# Altium footprint library COMPONENTS.PcbLib: 23 footprints (part 1 of 2)
Each footprint in its own frame and in the unit in brackets; x right, y up, seen from the top. Pads: shape width x height; smd on the part's side, far side on the other; paste and mask are expansions set on the pad; w line width, h text height; cw(c..) or ccw(c..) is an arc to the next point about the centre after c.
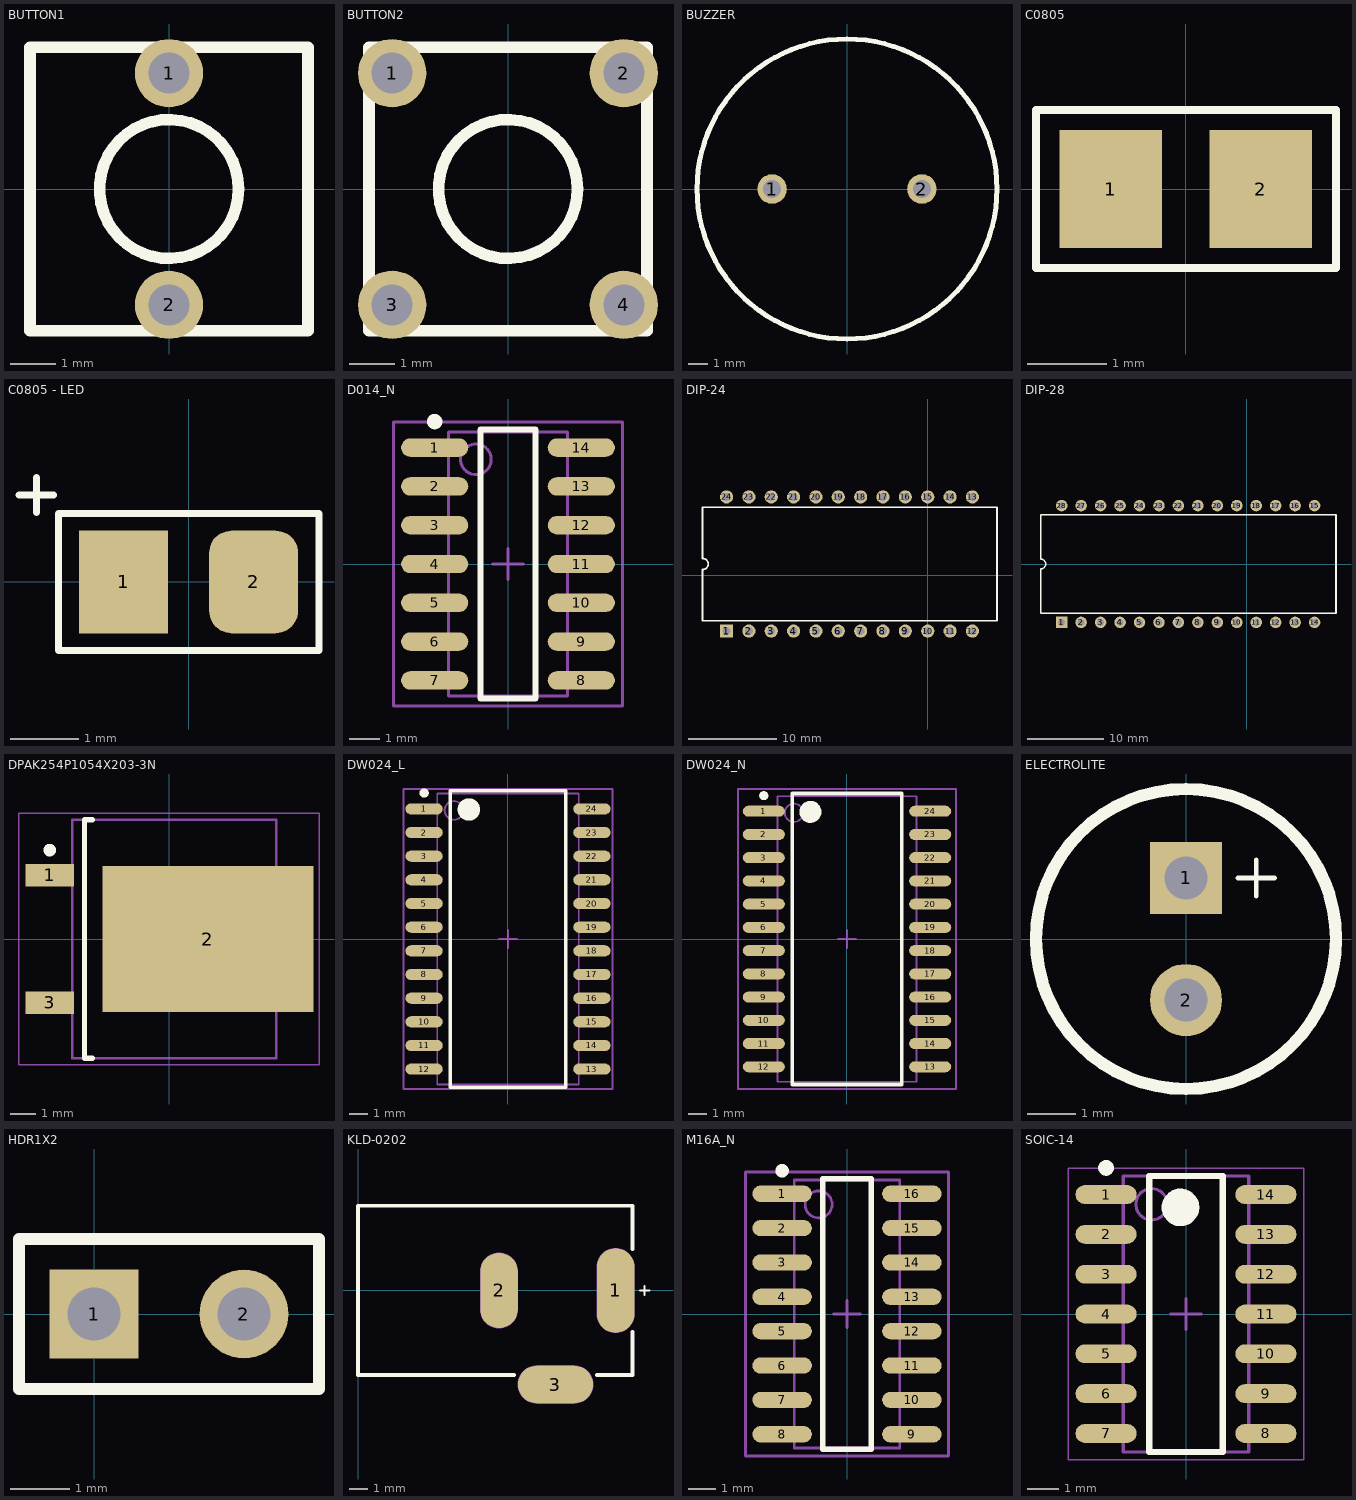
[diagram p0: the footprints below, top view; thin cyan lines are the x and y axes]

## BUTTON1 [mm]
pads (2):
  round 1.5 hole 0.9: 1(0,2.54) 2(0,-2.54)
Top Overlay:
  circle w0.254: c0,0 r1.524
  lines w0.254: -3.048,-3.111 3.048,-3.111 ; -3.048,-3.048 -3.048,3.048 ; -3.048,3.111 3.048,3.111 3.048,-3.048

## BUTTON2 [mm]
pads (4):
  round 1.5 hole 0.9: 1(-2.54,2.54) 2(2.54,2.54) 3(-2.54,-2.54) 4(2.54,-2.54)
Top Overlay:
  circle w0.254: c0,0 r1.524
  lines w0.254: -3.048,-3.111 3.048,-3.111 ; -3.048,-3.048 -3.048,3.048 ; -3.048,3.111 3.048,3.111 3.048,-3.048

## BUZZER [mm]
pads (2):
  round 1.5 hole 0.9: 1(-3.81,0) 2(3.81,0)
Top Overlay:
  circle w0.254: c0,0 r7.627

## C0805 [mm] "Chip Capacitor; Body 2.0 x 1.2 mm (LxW typ)"
height 1.1
pads (2):
  rect 1.3x1.5 smd: 1(-0.95,0) 2(0.95,0)
Top Overlay:
  lines w0.1: -1.9,-1 -1.9,0.9 -1.9,1 1.905,1 1.905,-1 -1.9,-1

## C0805 - LED [mm] "Chip Capacitor; Body 2.0 x 1.2 mm (LxW typ)"
height 1.1
pads (2):
  rect 1.3x1.5 smd: 1(-0.95,0)
  rrect50% 1.3x1.5 smd: 2(0.95,0)
Top Overlay:
  lines w0.1: -2.476,1.27 -1.968,1.27 ; -2.222,1.016 -2.222,1.524 ; -1.9,-1 1.905,-1 1.905,1 -1.9,1 -1.9,0.9 -1.9,-1

## D014_N [mm] "14-Pin Small Outline Integrated Circuit 1.27 mm Pitch, IPC Medium Density"
height 1.75
pads (14):
  oval 2.2x0.6 smd: 1(-2.4,3.81) 2(-2.4,2.54) 3(-2.4,1.27) 4(-2.4,0) 5(-2.4,-1.27) 6(-2.4,-2.54) 7(-2.4,-3.81) 8(2.4,-3.81) 9(2.4,-2.54) 10(2.4,-1.27) 11(2.4,0) 12(2.4,1.27) 13(2.4,2.54) 14(2.4,3.81)
Top Overlay:
  circle w0.25: c-2.4,4.66 r0.125
  lines w0.2: -0.9,-4.4 -0.9,4.4 0.9,4.4 0.9,-4.4 -0.9,-4.4
Mechanical 13:
  circle w0.1: c-1.05,3.425 r0.5
  lines w0.1: -1.95,-4.325 -1.95,4.325 1.95,4.325 1.95,-4.325 -1.95,-4.325
Mechanical 15:
  lines w0.1: -0.5,0 0.5,0 ; 0,-0.5 0,0.5 ; -3.75,-4.65 -3.75,4.65 3.75,4.65 3.75,-4.65 -3.75,-4.65
3D body: height 1.75, standoff 0, extent -1.95,-4.325 1.95,4.325

## DIP-24 [mm] "DIP; 40 Leads; Row Spacing 15.24 mm; Pitch 2.54 mm"
height 5.72
pads (24):
  rect 1.5x1.5 hole 0.9: 1(-22.86,-6.35)
  round 1.5 hole 0.9: 2(-20.32,-6.35) 3(-17.78,-6.35) 4(-15.24,-6.35) 5(-12.7,-6.35) 6(-10.16,-6.35) 7(-7.62,-6.35) 8(-5.08,-6.35) 9(-2.54,-6.35) 10(0,-6.35) 11(2.54,-6.35) 12(5.08,-6.35) 13(5.08,8.89) 14(2.54,8.89) 15(0,8.89) 16(-2.54,8.89) 17(-5.08,8.89) 18(-7.62,8.89) 19(-10.16,8.89) 20(-12.7,8.89) 21(-15.24,8.89) 22(-17.78,8.89) 23(-20.32,8.89) 24(-22.86,8.89)
Top Overlay:
  lines w0.2: -25.58,-5.18 7.874,-5.18 7.874,7.72 -25.58,7.72 -25.58,1.905 cw(c-25.58,1.27) -25.58,0.635 -25.58,-5.18

## DIP-28 [mm] "DIP; 40 Leads; Row Spacing 15.24 mm; Pitch 2.54 mm"
height 5.72
pads (28):
  rect 1.5x1.5 hole 0.9: 1(-24.13,-7.62)
  round 1.5 hole 0.9: 2(-21.59,-7.62) 3(-19.05,-7.62) 4(-16.51,-7.62) 5(-13.97,-7.62) 6(-11.43,-7.62) 7(-8.89,-7.62) 8(-6.35,-7.62) 9(-3.81,-7.62) 10(-1.27,-7.62) 11(1.27,-7.62) 12(3.81,-7.62) 13(6.35,-7.62) 14(8.89,-7.62) 15(8.89,7.62) 16(6.35,7.62) 17(3.81,7.62) 18(1.27,7.62) 19(-1.27,7.62) 20(-3.81,7.62) 21(-6.35,7.62) 22(-8.89,7.62) 23(-11.43,7.62) 24(-13.97,7.62) 25(-16.51,7.62) 26(-19.05,7.62) 27(-21.59,7.62) 28(-24.13,7.62)
Top Overlay:
  lines w0.2: -26.85,-6.45 11.684,-6.45 11.684,6.45 -26.85,6.45 -26.85,0.635 cw(c-26.85,0) -26.85,-0.635 -26.85,-6.45

## DPAK254P1054X203-3N [mm] "D-PAK, 3-Pads, Body 7,17x8,12mm (max), IPC Medium Density"
height 2.03
pads (3):
  rect 1.95x0.9 smd: 1(-4.75,2.54) 3(-4.75,-2.54)
  rect 8.4x5.8 smd: 2(1.55,0)
Top Overlay:
  circle w0.25: c-4.75,3.54 r0.125
  lines w0.2: -3.05,-4.75 -3.375,-4.75 -3.375,4.75 -3.05,4.75
Mechanical 13:
  lines w0.1: -3.85,-4.75 4.28,-4.75 4.28,4.75 -3.85,4.75 -3.85,-4.75
Mechanical 15:
  lines w0.05: -5.975,-5 5.975,-5 5.975,5 -5.975,5 -5.975,-5
  lines w0.1: -0.5,0 0.5,0 ; 0,-0.5 0,0.5
3D body: height 2.03, standoff 0.03, extent -3.85,-4.75 4.28,4.75

## DW024_L [mm] "24-Pin Plastic Small Outline Integrated Circuit 1.27 mm Pitch, IPC High Density"
height 2.65
pads (24):
  oval 2x0.6 smd: 1(-4.5,6.985) 2(-4.5,5.715) 3(-4.5,4.445) 4(-4.5,3.175) 5(-4.5,1.905) 6(-4.5,0.635) 7(-4.5,-0.635) 8(-4.5,-1.905) 9(-4.5,-3.175) 10(-4.5,-4.445) 11(-4.5,-5.715) 12(-4.5,-6.985) 13(4.5,-6.985) 14(4.5,-5.715) 15(4.5,-4.445) 16(4.5,-3.175) 17(4.5,-1.905) 18(4.5,-0.635) 19(4.5,0.635) 20(4.5,1.905) 21(4.5,3.175) 22(4.5,4.445) 23(4.5,5.715) 24(4.5,6.985)
Top Overlay:
  circle w0.6: c-2.1,6.95 r0.3
  circle w0.25: c-4.5,7.835 r0.125
  lines w0.2: -3.1,-7.95 3.1,-7.95 3.1,7.95 -3.1,7.95 -3.1,-7.95
Mechanical 13:
  circle w0.1: c-2.9,6.9 r0.5
  lines w0.1: -3.8,-7.8 3.8,-7.8 3.8,7.8 -3.8,7.8 -3.8,-7.8
Mechanical 15:
  lines w0.1: -0.5,0 0.5,0 ; 0,-0.5 0,0.5 ; -5.6,-8.05 5.6,-8.05 5.6,8.05 -5.6,8.05 -5.6,-8.05
3D body: height 2.65, standoff 0, extent -3.8,-7.8 3.8,7.8

## DW024_N [mm] "24-Pin Plastic Small Outline Integrated Circuit 1.27 mm Pitch, IPC Medium Density"
height 2.65
pads (24):
  oval 2.3x0.6 smd: 1(-4.55,6.985) 2(-4.55,5.715) 3(-4.55,4.445) 4(-4.55,3.175) 5(-4.55,1.905) 6(-4.55,0.635) 7(-4.55,-0.635) 8(-4.55,-1.905) 9(-4.55,-3.175) 10(-4.55,-4.445) 11(-4.55,-5.715) 12(-4.55,-6.985) 13(4.55,-6.985) 14(4.55,-5.715) 15(4.55,-4.445) 16(4.55,-3.175) 17(4.55,-1.905) 18(4.55,-0.635) 19(4.55,0.635) 20(4.55,1.905) 21(4.55,3.175) 22(4.55,4.445) 23(4.55,5.715) 24(4.55,6.985)
Top Overlay:
  circle w0.6: c-2,6.95 r0.3
  circle w0.25: c-4.55,7.835 r0.125
  lines w0.2: -3,-7.95 3,-7.95 3,7.95 -3,7.95 -3,-7.95
Mechanical 13:
  circle w0.1: c-2.9,6.9 r0.5
  lines w0.1: -3.8,-7.8 3.8,-7.8 3.8,7.8 -3.8,7.8 -3.8,-7.8
Mechanical 15:
  lines w0.1: -0.5,0 0.5,0 ; 0,-0.5 0,0.5 ; -5.95,-8.2 5.95,-8.2 5.95,8.2 -5.95,8.2 -5.95,-8.2
3D body: height 2.65, standoff 0, extent -3.8,-7.8 3.8,7.8

## ELECTROLITE [mm]
pads (2):
  rect 1.5x1.5 hole 0.9: 1(0,1.27)
  round 1.5 hole 0.9: 2(0,-1.27)
Top Overlay:
  circle w0.254: c0,0 r3.122
  lines w0.1: 1.079,1.27 1.841,1.27 ; 1.46,0.889 1.46,1.651

## HDR1X2 [mm] "Connector; Header; 2 Position"
pads (2):
  rect 1.5x1.5 hole 0.9: 1(0,0)
  round 1.5 hole 0.9: 2(2.54,0)
Top Overlay:
  lines w0.2: -1.27,-1.27 -1.27,1.27 3.81,1.27 3.81,-1.27 -1.27,-1.27

## KLD-0202 [mm] "DC Power Jack, 2.5mm, KLD Series, PCB Mount"
pads (3):
  oval 2x4.5 all layers, no hole: 1(13.7,0)
  oval 2x4 all layers, no hole: 2(7.5,0)
  oval 4x2 all layers, no hole: 3(10.5,-5)
Top Overlay:
  lines w0.1: 14.986,0 15.494,0 ; 15.24,-0.254 15.24,0.254
  lines w0.2: 8.3,-4.5 0,-4.5 0,4.5 14.6,4.5 14.6,2.2 ; 12.7,-4.5 14.6,-4.5 14.6,-2.2
Mechanical 1:
  lines w1: 7.5,-1 7.5,1 ; 9.5,-5 11.5,-5 ; 13.7,-1.25 13.7,1.25
Mechanical 2:
  lines w2.016: 7.5,-1 7.5,1 ; 9.5,-5 11.5,-5 ; 13.7,-1.25 13.7,1.25

## M16A_N [mm] "16-Pin Small Outline Integrated Circuit 1.27 mm Pitch, IPC Medium Density"
height 1.75
pads (16):
  oval 2.2x0.6 smd: 1(-2.4,4.445) 2(-2.4,3.175) 3(-2.4,1.905) 4(-2.4,0.635) 5(-2.4,-0.635) 6(-2.4,-1.905) 7(-2.4,-3.175) 8(-2.4,-4.445) 9(2.4,-4.445) 10(2.4,-3.175) 11(2.4,-1.905) 12(2.4,-0.635) 13(2.4,0.635) 14(2.4,1.905) 15(2.4,3.175) 16(2.4,4.445)
Top Overlay:
  circle w0.25: c-2.4,5.295 r0.125
  lines w0.2: -0.9,-5 -0.9,5 0.9,5 0.9,-5 -0.9,-5
Mechanical 13:
  circle w0.1: c-1.05,4.05 r0.5
  lines w0.1: -1.95,-4.95 -1.95,4.95 1.95,4.95 1.95,-4.95 -1.95,-4.95
Mechanical 15:
  lines w0.1: -0.5,0 0.5,0 ; 0,-0.5 0,0.5 ; -3.75,-5.25 -3.75,5.25 3.75,5.25 3.75,-5.25 -3.75,-5.25
3D body: height 1.75, standoff 0, extent -1.95,-4.95 1.95,4.95

## SOIC-14 [mm]
height 1.75
pads (14):
  oval 1.95x0.6 smd: 1(-2.55,3.81) 2(-2.55,2.54) 3(-2.55,1.27) 4(-2.55,0) 5(-2.55,-1.27) 6(-2.55,-2.54) 7(-2.55,-3.81) 8(2.55,-3.81) 9(2.55,-2.54) 10(2.55,-1.27) 11(2.55,0) 12(2.55,1.27) 13(2.55,2.54) 14(2.55,3.81)
Top Overlay:
  circle w0.6: c-0.175,3.4 r0.3
  circle w0.25: c-2.55,4.66 r0.125
  lines w0.2: -1.175,-4.4 1.175,-4.4 1.175,4.4 -1.175,4.4 -1.175,-4.4
Mechanical 13:
  circle w0.1: c-1.1,3.5 r0.5
  lines w0.1: -2,-4.4 2,-4.4 2,4.4 -2,4.4 -2,-4.4
Mechanical 15:
  lines w0.05: -3.75,-4.65 3.75,-4.65 3.75,4.65 -3.75,4.65 -3.75,-4.65
  lines w0.1: -0.5,0 0.5,0 ; 0,-0.5 0,0.5
3D body: height 1.75, standoff 0.25, extent -2,-4.4 2,4.4